# Altium footprint library 78646-3001.PcbLib: 1 footprints
Each footprint in its own frame and in the unit in brackets; x right, y up, seen from the top. Pads: shape width x height; smd on the part's side, far side on the other; paste and mask are expansions set on the pad; w line width, h text height; cw(c..) or ccw(c..) is an arc to the next point about the centre after c.
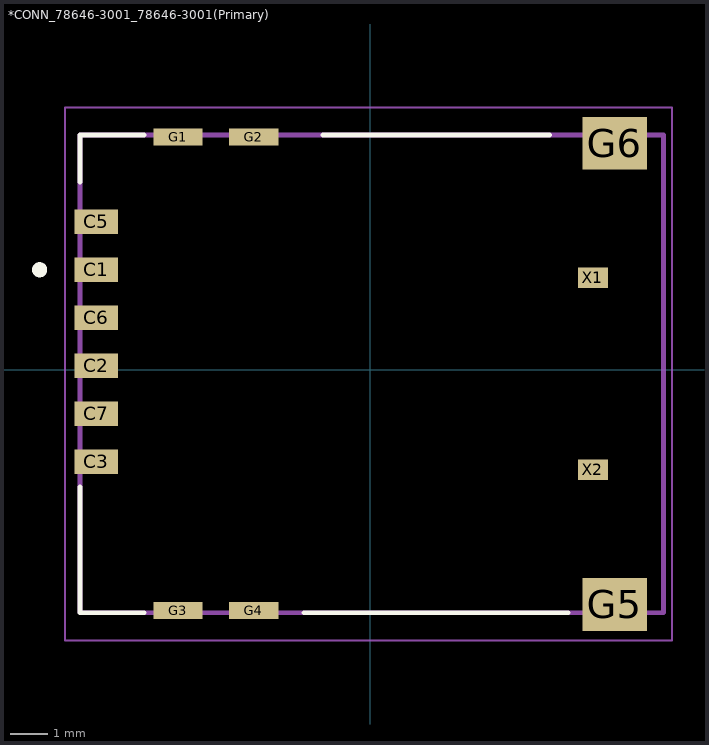
[diagram p0: the footprint, top view; thin cyan lines are the x and y axes]

## *CONN_78646-3001_78646-3001(Primary) [mm]
pads (14):
  rect 1.15x0.65 smd: C1(-7.26,2.645) C2(-7.26,0.105) C3(-7.26,-2.435) C5(-7.26,3.915) C6(-7.26,1.375) C7(-7.26,-1.165)
  rect 1.3x0.45 smd: G1(-5.09,6.16) G2(-3.09,6.16) G3(-5.09,-6.38) G4(-3.09,-6.38)
  rect 1.7x1.4 smd: G5(6.47,-6.215) G6(6.47,5.995)
  rect 0.8x0.54 smd: X1(5.89,2.43) X2(5.89,-2.65)
Top Overlay:
  circle w0.2: c-8.76,2.645 r0.1
  lines w0.127: -7.69,-3.11 -7.69,-6.435 -5.99,-6.435 ; -7.69,4.97 -7.69,6.215 -5.99,6.215 ; -1.76,-6.435 5.24,-6.435 ; -1.26,6.215 4.74,6.215
Mechanical 13:
  lines w0.127: -7.69,-6.435 7.76,-6.435 ; -7.69,-6.435 -7.69,6.215 ; -7.69,-6.435 7.76,-6.435 ; -7.69,-6.435 -7.69,6.215 ; -7.69,6.215 7.76,6.215 ; -7.69,6.215 7.76,6.215 ; 7.76,-6.435 7.76,6.215 ; 7.76,-6.435 7.76,6.215
Mechanical 15:
  lines w0.05: -8.085,-7.17 -8.085,6.94 7.99,6.94 7.99,-7.17 -8.085,-7.17